# Altium integrated library TSM-106-04-S-DV-008.IntLib: 1 symbol
Pins are listed as number, name and electrical type; pins without a type are passive.

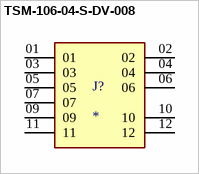
[diagram p0: symbol TSM-106-04-S-DV-008]

## TSM-106-04-S-DV-008
designator J?
Conn Unshrouded Header HDR 12 POS 2.54mm Solder ST SMD Tube; MP: TSM-106-04-S-DV-008; MF: Samtec; Check_prices: https://www.snapeda.com/parts/TSM-106-04-S-DV-008/Samtec/view-part/3342062/?ref=eda; Package: None; SnapEDA_Link: https://www.snapeda.com/parts/TSM-106-04-S-DV-008/Samtec/view-part/3342062/?ref=snap; Value: *; Price: None; Availability: Not in stock; Purchase-URL: https://pricing.snapeda.com/search/part/TSM-106-04-S-DV-008/?ref=eda
footprint SAMTEC_TSM-106-04-S-DV-008
pins: 01, 02, 03, 04, 05, 06, 07, 09, 10, 11, 12